# EAGLE library part 418121160805 (library Eagle_SWITCHES (rev18c))
2.54 mm small compact SMD flat actuator with top tape WS-DISV,10 pins,5 poles <http://katalog.we-online.de/media/images/v2/Family_WS_IC_4181211608xx_pf2.jpg> Details see: http://katalog.we-online.de/en/em/DISV_2_54_SMALL_COMPACT_SMD_FLAT_ACTUATOR Updated:2017-04-14 2017 (C) Wurth Elektronik
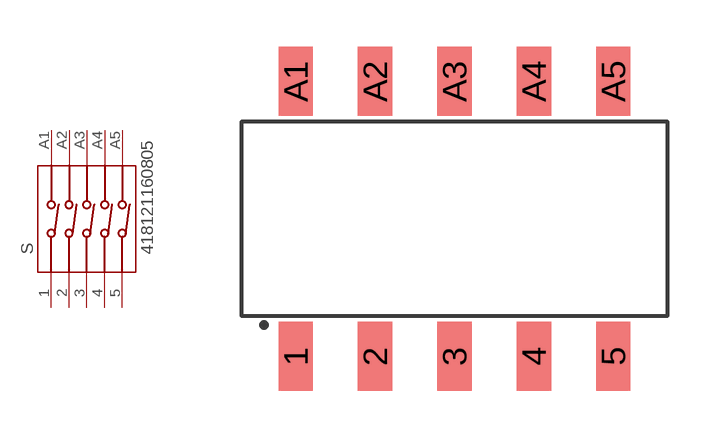
[diagram p26: symbol with the pads of 418121160805; footprint 418121160805]

Designator prefix S

## 418121160805  [418121160805]
1  1  pas
2  2  pas
3  3  pas
4  4  pas
5  5  pas
A1  A1  pas
A2  A2  pas
A3  A3  pas
A4  A4  pas
A5  A5  pas

## Footprint 418121160805 (pad centres in mm)
WS-IC-2.54 mm small compact SMD Dip Switch with top tape,10 pins,5 poles
smd 1.1 x 2.2: 1 -5.08,-4.4; 2 -2.54,-4.4; 3 0,-4.4; 4 2.54,-4.4; 5 5.08,-4.4; A1 -5.08,4.4; A2 -2.54,4.4; A3 0,4.4; A4 2.54,4.4; A5 5.08,4.4